# EAGLE library part TV07RW-21-29P-LC (library FSAE Eletric)
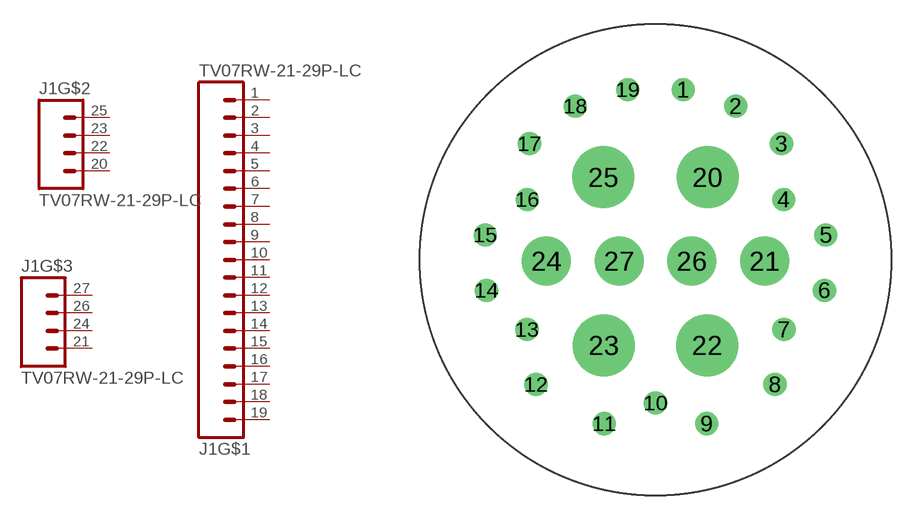
[diagram p30: symbol with the pads of TV07RW-21-29P-LC; footprint TV07RW-21-29P-LC]

Designator prefix J1; gates G$1=M19 G$2=M4 G$3=M4

## TV07RW-21-29P-LC  [TV07RW-21-29P-LC]
1  G$1:1  pas
2  G$1:2  pas
3  G$1:3  pas
4  G$1:4  pas
5  G$1:5  pas
6  G$1:6  pas
7  G$1:7  pas
8  G$1:8  pas
9  G$1:9  pas
10  G$1:10  pas
11  G$1:11  pas
12  G$1:12  pas
13  G$1:13  pas
14  G$1:14  pas
15  G$1:15  pas
16  G$1:16  pas
17  G$1:17  pas
18  G$1:18  pas
19  G$1:19  pas
20  G$2:1  pas
21  G$3:1  pas
22  G$2:2  pas
23  G$2:3  pas
24  G$3:2  pas
25  G$2:4  pas
26  G$3:3  pas
27  G$3:4  pas

## Footprint TV07RW-21-29P-LC (pad centres in mm)
drill 0.762 pad 1.422: 1 1.702,10.465; 2 4.928,9.449; 3 7.747,7.137; 4 7.874,3.708; 5 10.465,1.524; 6 10.389,-1.88; 7 7.899,-4.293; 8 7.341,-7.671; 9 3.15,-10.084; 10 0,-8.814; 11 -3.15,-10.084; 12 -7.341,-7.671; 13 -7.899,-4.293; 14 -10.389,-1.88; 15 -10.465,1.524; 16 -7.874,3.708; 17 -7.747,7.137; 18 -4.928,9.449; 19 -1.702,10.465
drill 2.8: 20 3.2,5.08; 22 3.175,-5.258; 23 -3.175,-5.258; 25 -3.2,5.08
drill 2 pad 2.54: 21 6.706,-0.076; 24 -6.706,-0.076; 26 2.235,-0.076; 27 -2.235,-0.076